# Altium schematic symbol library switch_toggle.SchLib: 8 symbols
Pins are listed as number, name and electrical type; pins without a type are passive.

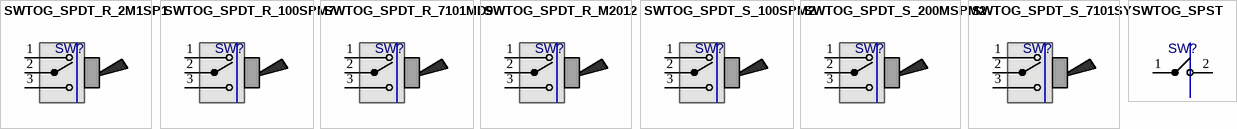
[diagram p0: symbols SWTOG_SPDT_R_2M1SP1 to SWTOG_SPST]

## SWTOG_SPDT_R_2M1SP1
designator SW?, comment ToggleSwitch  (value not drawn)
SWITCH, TOGGLE, SPDT, THD; MANF_PART#: 2M1-SP1-T2-B4-M6RE; MANF: Carling; PARAM: 20VAC, 0.4VA; DESC: DESCRIPTION; VALUE: ToggleSwitch; ASSEMBLY: ASSEMBLY; PRICE: 2.6$
footprint SWTOG_SPDT_R_2M1SP1 (Switch Toggle, 2M1-SP1-T2-B4-M6RE)
pins: 1 T1, 2 COM, 3 T2

## SWTOG_SPDT_R_100SPM7
designator SW?, comment ToggleSwitch  (value not drawn)
SWITCH, TOGGLE, SPDT, THD; MANF_PART#: 100SP1T2B4M7RE; MANF: E.SWITCH; PARAM: 20VAC; DESC: DESCRIPTION; VALUE: ToggleSwitch; ASSEMBLY: ASSEMBLY; PRICE: 3.3$
footprint SWTOG_SPDT_R_100spm7 (Switch Toggle, SPDT RightAngle (manufacturer: E.SWITCH) 100SP1T2B4M7RE)
pins: 1 T1, 2 COM, 3 T2

## SWTOG_SPDT_R_7101MD9
designator SW?, comment ToggleSwitch  (value not drawn)
SWITCH, TOGGLE, SPDT, THD; MANF_PART#: 7101MD9ABE; MANF: C&K; PARAM: 20VAC, 5A; DESC: DESCRIPTION; VALUE: ToggleSwitch; ASSEMBLY: ASSEMBLY; PRICE: 6.5$
footprint SWTOG_SPDT_R_7101MD9 (Switch Toggle, 7101MD9ABE)
pins: 1 T1, 2 COM, 3 T2

## SWTOG_SPDT_R_M2012
designator SW?, comment ToggleSwitch  (value not drawn)
SWITCH, TOGGLE, SPDT, THD; MANF_PART#: M2012SA2W30; MANF: NKK; PARAM: 3A, 125VAC/30VDC; DESC: DESCRIPTION; VALUE: ToggleSwitch; ASSEMBLY: ASSEMBLY; PRICE: 3.5$
footprint SWTOG_SPDT_R_M2012 (Switch Toggle, SPDT, THD, RightAngLe, NKK M2012SA2W30)
pins: 1 T1, 2 COM, 3 T2

## SWTOG_SPDT_S_100SPM2
designator SW?, comment ToggleSwitch  (value not drawn)
SWITCH, TOGGLE, SPDT, THD; MANF_PART#: 100SP1T1B4M2QE, 100SP1T1B1M2QEH; MANF: E.SWITCH; PARAM: 125VAC; DESC: 100SP1T2B3M2QEH; VALUE: ToggleSwitch; ASSEMBLY: ASSEMBLY; PRICE: 2$
footprint SWTOG_SPDT_S_200MSPM2 (Switch Toggle, SPDT RightAngle, E.SWITCH 200MSP1T1B1M2QEH)
pins: 1 T1, 2 COM, 3 T2

## SWTOG_SPDT_S_200MSPM2
designator SW?, comment ToggleSwitch  (value not drawn)
SWITCH, TOGGLE, SPDT, THD; MANF_PART#: 200MSP1T1B1M2QEH; MANF: E.SWITCH; PARAM: 20VAC; DESC: DESCRIPTION; VALUE: ToggleSwitch; ASSEMBLY: ASSEMBLY; PRICE: 3.3$
footprint SWTOG_SPDT_S_200MSPM2 (Switch Toggle, SPDT RightAngle, E.SWITCH 200MSP1T1B1M2QEH)
pins: 1 T1, 2 COM, 3 T2

## SWTOG_SPDT_S_7101SY
designator SW?, comment ToggleSwitch  (value not drawn)
SWITCH, TOGGLE, SPDT, THD; MANF_PART#: 7101SYZBE; MANF: C&K; PARAM: 20VAC, 5A; DESC: DESCRIPTION; VALUE: ToggleSwitch; ASSEMBLY: ASSEMBLY; PRICE: 4.5$
footprint SWTOG_SPDT_S_7101SY (Switch Toggle, SPDT Straight, 7X12mm, 7101SYZBE CK)
pins: 1 T1, 2 COM, 3 T2

## SWTOG_SPST
designator SW?, comment ToggleSwitch  (value not drawn)
SWITCH, TOGGLE, SPST, THD; DESC: DESCRIPTION; MANF: -; MANF_PART#: -; VALUE: ToggleSwitch; ASSEMBLY: ASSEMBLY; PARAM: PARAM; PRICE: -
footprint - (Footprint not found)
pins: 1 P1, 2 P3